# Altium schematic symbol library MAX_9814_Module.SchLib: 1 symbol
Pins are listed as number, name and electrical type; pins without a type are passive.

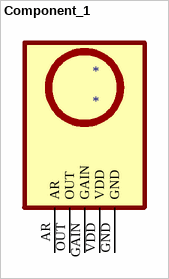
[diagram p0: symbol Component_1]

## Component_1
designator *
footprint PCBComponent_1
pins: AR, GAIN, GND, OUT, VDD